# Altium footprint library MOC3052SR2M.PcbLib: 1 footprints
Each footprint in its own frame and in the unit in brackets; x right, y up, seen from the top. Pads: shape width x height; smd on the part's side, far side on the other; paste and mask are expansions set on the pad; w line width, h text height; cw(c..) or ccw(c..) is an arc to the next point about the centre after c.
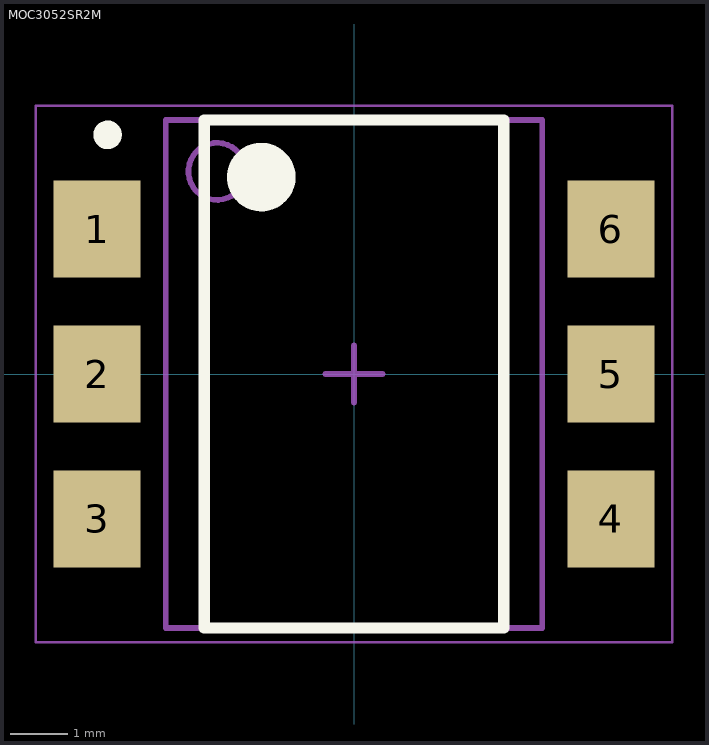
[diagram p0: the footprint, top view; thin cyan lines are the x and y axes]

## MOC3052SR2M [mm]
height 5.08
pads (6):
  rect 1.525x1.7 smd: 1(-4.5,2.54) 2(-4.5,0) 3(-4.5,-2.54) 4(4.5,-2.54) 5(4.5,0) 6(4.5,2.54)
Top Overlay:
  circle w0.6: c-1.625,3.45 r0.3
  circle w0.25: c-4.318,4.191 r0.125
  lines w0.2: -2.625,-4.45 2.625,-4.45 2.625,4.45 -2.625,4.45 -2.625,-4.45
Mechanical 13:
  circle w0.1: c-2.4,3.55 r0.5
  lines w0.1: -3.3,-4.45 3.3,-4.45 3.3,4.45 -3.3,4.45 -3.3,-4.45
Mechanical 15:
  lines w0.05: -5.575,-4.7 5.575,-4.7 5.575,4.7 -5.575,4.7 -5.575,-4.7
  lines w0.1: -0.5,0 0.5,0 ; 0,-0.5 0,0.5
3D body: height 4.38, standoff -0.18, extent -4.58,-4.25 4.58,4.25